# Altium schematic symbol library DS28E05R&plus_U.SchLib: 1 symbol
Pins are listed as number, name and electrical type; pins without a type are passive.

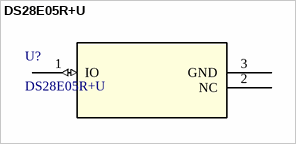
[diagram p0: symbol DS28E05R+U]

## DS28E05R+U
designator U?
1-Wire EEPROM; Manufacturer_Name: Analog Devices Inc; Copyright: Copyright (C) 2026 Ultra Librarian. All rights reserved.; Manufacturer_Part_Number: DS28E05R+U; RefDes: RefDes; Type: Type
footprint 21-0051H_MXM
pins: 1 IO (io), 2 NC, 3 GND (power)